# Altium footprint library PLS-xx.PcbLib: 10 footprints
Each footprint in its own frame and in the unit in brackets; x right, y up, seen from the top. Pads: shape width x height; smd on the part's side, far side on the other; paste and mask are expansions set on the pad; w line width, h text height; cw(c..) or ccw(c..) is an arc to the next point about the centre after c.
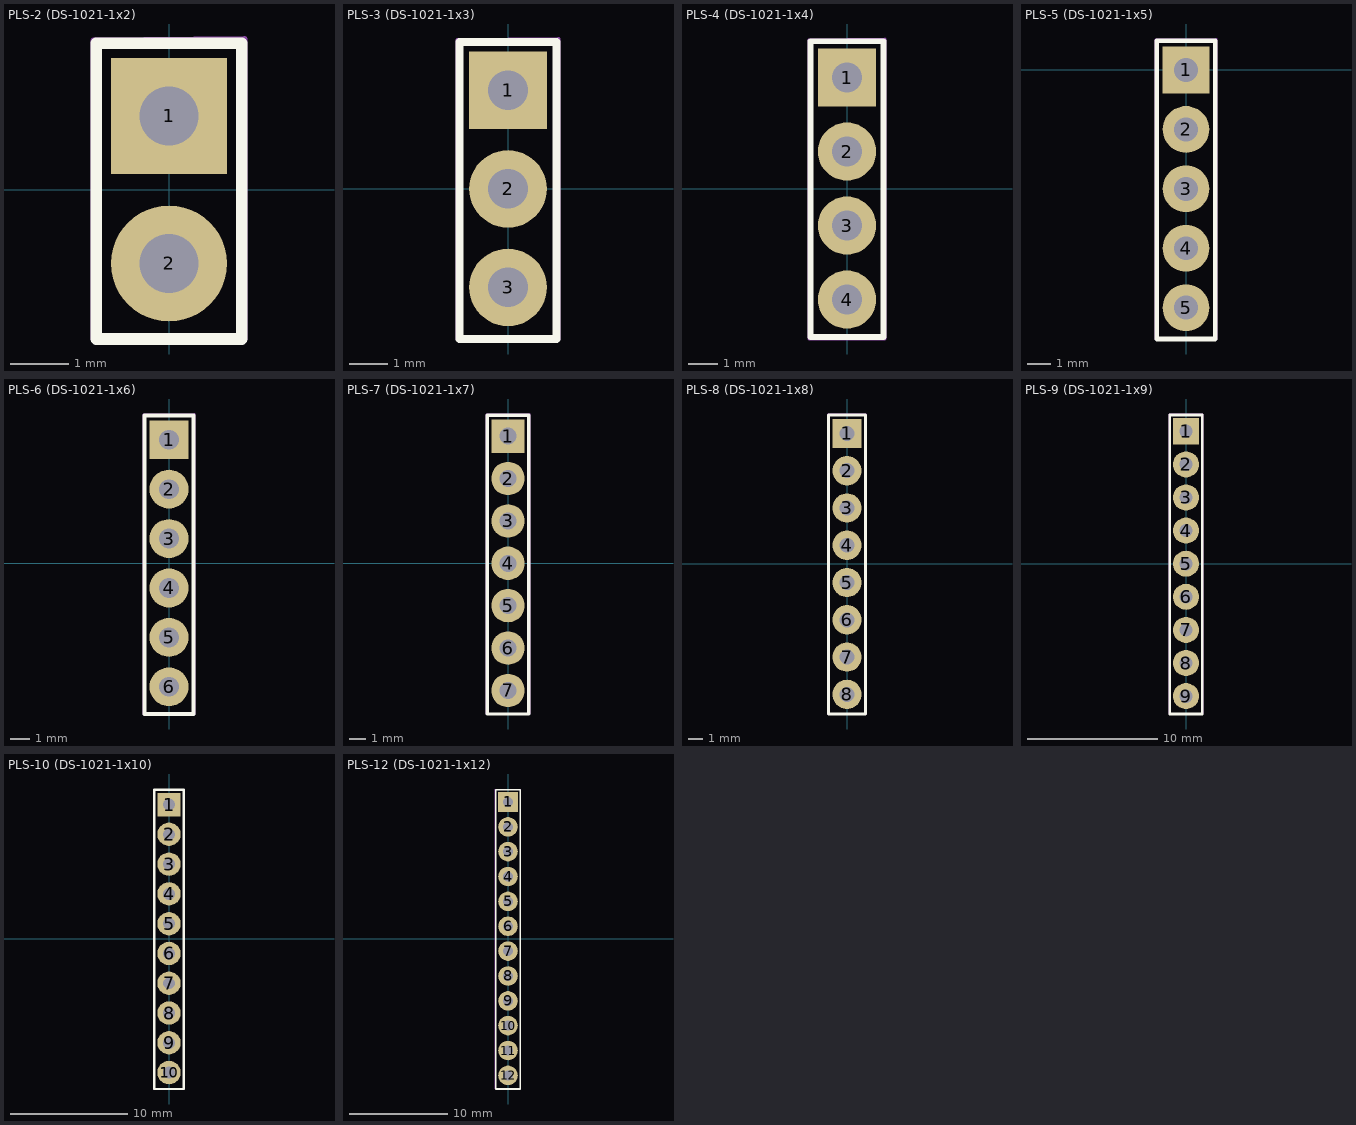
[diagram p0: the footprints below, top view; thin cyan lines are the x and y axes]

## PLS-2 (DS-1021-1x2) [mm]
pads (2):
  rect 2x2 hole 1.02: 1(0,1.27)
  round 2 hole 1.02: 2(0,-1.27)
Top Overlay:
  lines w0.2: -1.25,-2.57 -1.25,2.52 1.25,2.52 1.25,-2.57 -1.25,-2.57
Border:
  lines w0.1: -1.3,-2.57 1.3,-2.57 1.3,2.595 -1.3,2.57 -1.3,-2.57
3D body "User Library-PLS2.STEP": height 8.54, standoff -3, extent -1.27,-2.57 1.27,2.51

## PLS-3 (DS-1021-1x3) [mm]
pads (3):
  rect 2x2 hole 1.02: 1(0,2.54)
  round 2 hole 1.02: 2(0,0) 3(0,-2.54)
Top Overlay:
  lines w0.2: -1.25,-3.87 -1.25,3.79 1.25,3.79 1.25,-3.87 -1.25,-3.87
Border:
  lines w0.1: -1.3,-3.87 1.3,-3.87 1.3,3.865 -1.3,3.84 -1.3,-3.87
3D body "User Library-PLS-3.STEP": height 8.54, standoff -3, extent -1.24,-3.8 1.3,3.82

## PLS-4 (DS-1021-1x4) [mm]
pads (4):
  rect 2x2 hole 1.02: 1(0,3.81)
  round 2 hole 1.02: 2(0,1.27) 3(0,-1.27) 4(0,-3.81)
Top Overlay:
  lines w0.2: -1.25,-5.1 1.25,-5.1 1.25,5.06 -1.25,5.06 -1.25,-5.1
Border:
  lines w0.1: -1.3,-5.165 -1.3,5.11 1.3,5.135 1.3,-5.165 -1.3,-5.165
3D body "User Library-1x4 TH Pitch 2_54mm.STEP": height 9.2, standoff -3.5, extent -1.27,-5.08 1.27,5.08

## PLS-5 (DS-1021-1x5) [mm]
pads (5):
  rect 2x2 hole 1.02: 1(0,0)
  round 2 hole 1.02: 2(0,-2.54) 3(0,-5.08) 4(0,-7.62) 5(0,-10.16)
Top Overlay:
  lines w0.2: -1.25,-11.5 -1.25,1.25 1.25,1.25 1.25,-11.5 -1.25,-11.5
Border:
  lines w0.1: -1.3,-11.5 1.3,-11.5 1.3,1.325 -1.3,1.3 -1.3,-11.5
3D body "User Library-PLS-5.STEP": height 8.54, standoff -3, extent -1.25,-11.5 1.29,1.2

## PLS-6 (DS-1021-1x6) [mm]
pads (6):
  rect 2x2 hole 1.02: 1(0,6.35)
  round 2 hole 1.02: 2(0,3.81) 3(0,1.27) 4(0,-1.27) 5(0,-3.81) 6(0,-6.35)
Top Overlay:
  lines w0.2: -1.25,-7.75 -1.25,7.6 1.25,7.6 1.25,-7.75 -1.25,-7.75
Border:
  lines w0.1: -1.3,-7.75 1.3,-7.75 1.3,7.675 -1.3,7.65 -1.3,-7.75
3D body "User Library-PLS-6.STEP": height 8.54, standoff -3, extent -1.29,-7.6 1.25,7.64

## PLS-7 (DS-1021-1x7) [mm]
pads (7):
  rect 2x2 hole 1.02: 1(0,7.62)
  round 2 hole 1.02: 2(0,5.08) 3(0,2.54) 4(0,0) 5(0,-2.54) 6(0,-5.08) 7(0,-7.62)
Top Overlay:
  lines w0.2: -1.25,-9.03 -1.25,8.87 1.25,8.87 1.25,-9.03 -1.25,-9.03
Border:
  lines w0.1: -1.3,-9.03 1.3,-9.03 1.3,8.945 -1.3,8.92 -1.3,-9.03
3D body "User Library-PLS-7.STEP": height 8.54, standoff -3, extent -1.29,-8.9 1.25,8.88

## PLS-8 (DS-1021-1x8) [mm]
pads (8):
  rect 2x2 hole 1.02: 1(0,8.89)
  round 2 hole 1.02: 2(0,6.35) 3(0,3.81) 4(0,1.27) 5(0,-1.27) 6(0,-3.81) 7(0,-6.35) 8(0,-8.89)
Top Overlay:
  lines w0.2: -1.25,-10.23 -1.25,10.14 1.25,10.14 1.25,-10.23 -1.25,-10.23
Border:
  lines w0.1: -1.3,-10.23 1.3,-10.23 1.3,10.215 -1.3,10.19 -1.3,-10.23
3D body "User Library-1x8 TH Pitch 2_54mm.STEP": height 9.2, standoff -3.5, extent -1.27,-10.16 1.27,10.16

## PLS-9 (DS-1021-1x9) [mm]
pads (9):
  rect 2x2 hole 1.02: 1(0,10.16)
  round 2 hole 1.02: 2(0,7.62) 3(0,5.08) 4(0,2.54) 5(0,0) 6(0,-2.54) 7(0,-5.08) 8(0,-7.62) 9(0,-10.16)
Top Overlay:
  lines w0.2: -1.25,-11.53 1.25,-11.53 1.25,11.41 -1.25,11.41 -1.25,-11.53
Border:
  lines w0.1: -1.3,-11.53 -1.3,11.46 1.3,11.485 1.3,-11.53 -1.3,-11.53
3D body "User Library-1x9 TH Pitch 2_54mm.STEP": height 9.2, standoff -3.5, extent -1.27,-11.43 1.27,11.43

## PLS-10 (DS-1021-1x10) [mm]
pads (10):
  rect 2x2 hole 1.02: 1(0,11.43)
  round 2 hole 1.02: 2(0,8.89) 3(0,6.35) 4(0,3.81) 5(0,1.27) 6(0,-1.27) 7(0,-3.81) 8(0,-6.35) 9(0,-8.89) 10(0,-11.43)
Top Overlay:
  lines w0.2: -1.25,-12.83 -1.25,12.68 1.25,12.68 1.25,-12.83 -1.25,-12.83
Border:
  lines w0.1: -1.3,-12.83 1.3,-12.83 1.3,12.755 -1.3,12.73 -1.3,-12.83
3D body "User Library-1x10 TH Pitch 2_54mm.STEP": height 9.2, standoff -3.5, extent -1.27,-12.7 1.27,12.7

## PLS-12 (DS-1021-1x12) [mm]
pads (12):
  rect 2x2 hole 1.02: 1(0,13.97)
  round 2 hole 1.02: 2(0,11.43) 3(0,8.89) 4(0,6.35) 5(0,3.81) 6(0,1.27) 7(0,-1.27) 8(0,-3.81) 9(0,-6.35) 10(0,-8.89) 11(0,-11.43) 12(0,-13.97)
Top Overlay:
  lines w0.2: -1.25,-15.36 -1.25,15.22 1.25,15.22 1.25,-15.36 -1.25,-15.36
Border:
  lines w0.1: -1.3,-15.36 1.3,-15.36 1.3,15.295 -1.3,15.27 -1.3,-15.36
3D body "User Library-PLS-6.STEP": height 8.54, standoff -3, extent -1.29,-15.27 1.25,-0.03
3D body "User Library-PLS-6.STEP": height 8.54, standoff -3, extent -1.29,-0.03 1.25,15.21